# Altium footprint library bypass_conn.PcbLib: 1 footprints
Each footprint in its own frame and in the unit in brackets; x right, y up, seen from the top. Pads: shape width x height; smd on the part's side, far side on the other; paste and mask are expansions set on the pad; w line width, h text height; cw(c..) or ccw(c..) is an arc to the next point about the centre after c.
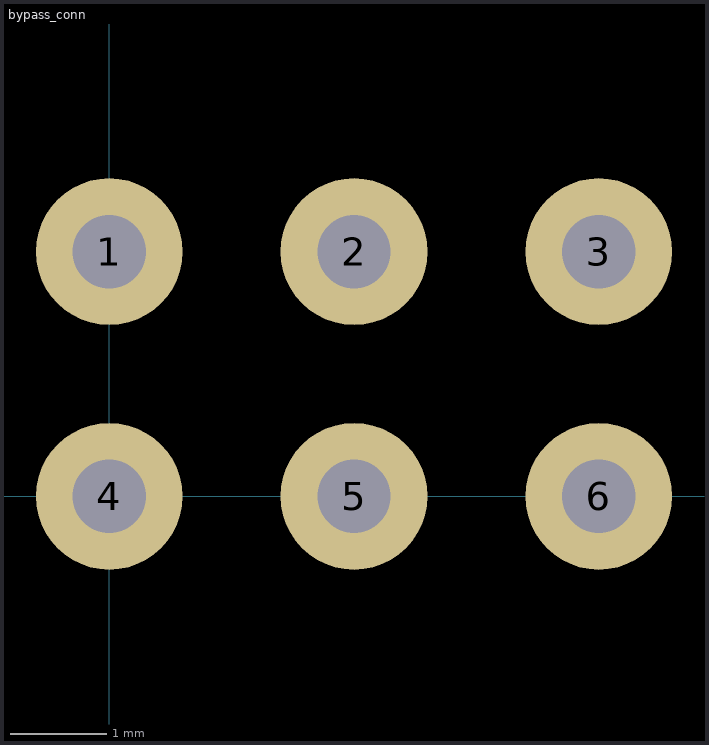
[diagram p0: the footprint, top view; thin cyan lines are the x and y axes]

## bypass_conn [mil]
pads (6):
  round 60 hole 30: 1(0,100) 2(100,100) 3(200,100) 4(0,0) 5(100,0) 6(200,0)